# Altium schematic symbol library SENSORS.SchLib: 2 symbols
Pins are listed as number, name and electrical type; pins without a type are passive.

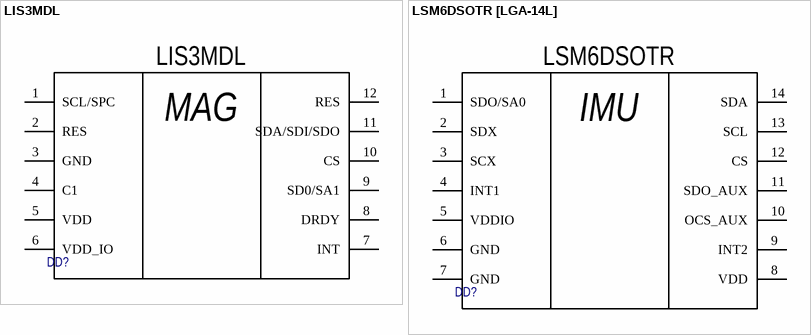
[diagram p0: symbols LIS3MDL to LSM6DSOTR [LGA-14L]]

## LIS3MDL
designator DD?  (value not drawn)
Magnetometer 3-axis
footprint LIS3MDL [LGA-12L]
pins: 1 SCL/SPC, 2 RES, 3 GND, 4 C1, 5 VDD, 6 VDD_IO, 7 INT, 8 DRDY, 9 SD0/SA1, 10 CS, 11 SDA/SDI/SDO, 12 RES
text: MAG

## LSM6DSOTR [LGA-14L]
designator DD?  (value not drawn)
IMU 6-axis
footprint LSM6DSO [LGA-14L]
pins: 1 SDO/SA0, 2 SDX, 3 SCX, 4 INT1, 5 VDDIO, 6 GND, 7 GND, 8 VDD, 9 INT2, 10 OCS_AUX, 11 SDO_AUX, 12 CS, 13 SCL, 14 SDA
text: LSM6DSOTR; IMU